# Altium footprint library MERES.PcbLib: 90 footprints (part 5 of 6)
Each footprint in its own frame and in the unit in brackets; x right, y up, seen from the top. Pads: shape width x height; smd on the part's side, far side on the other; paste and mask are expansions set on the pad; w line width, h text height; cw(c..) or ccw(c..) is an arc to the next point about the centre after c.
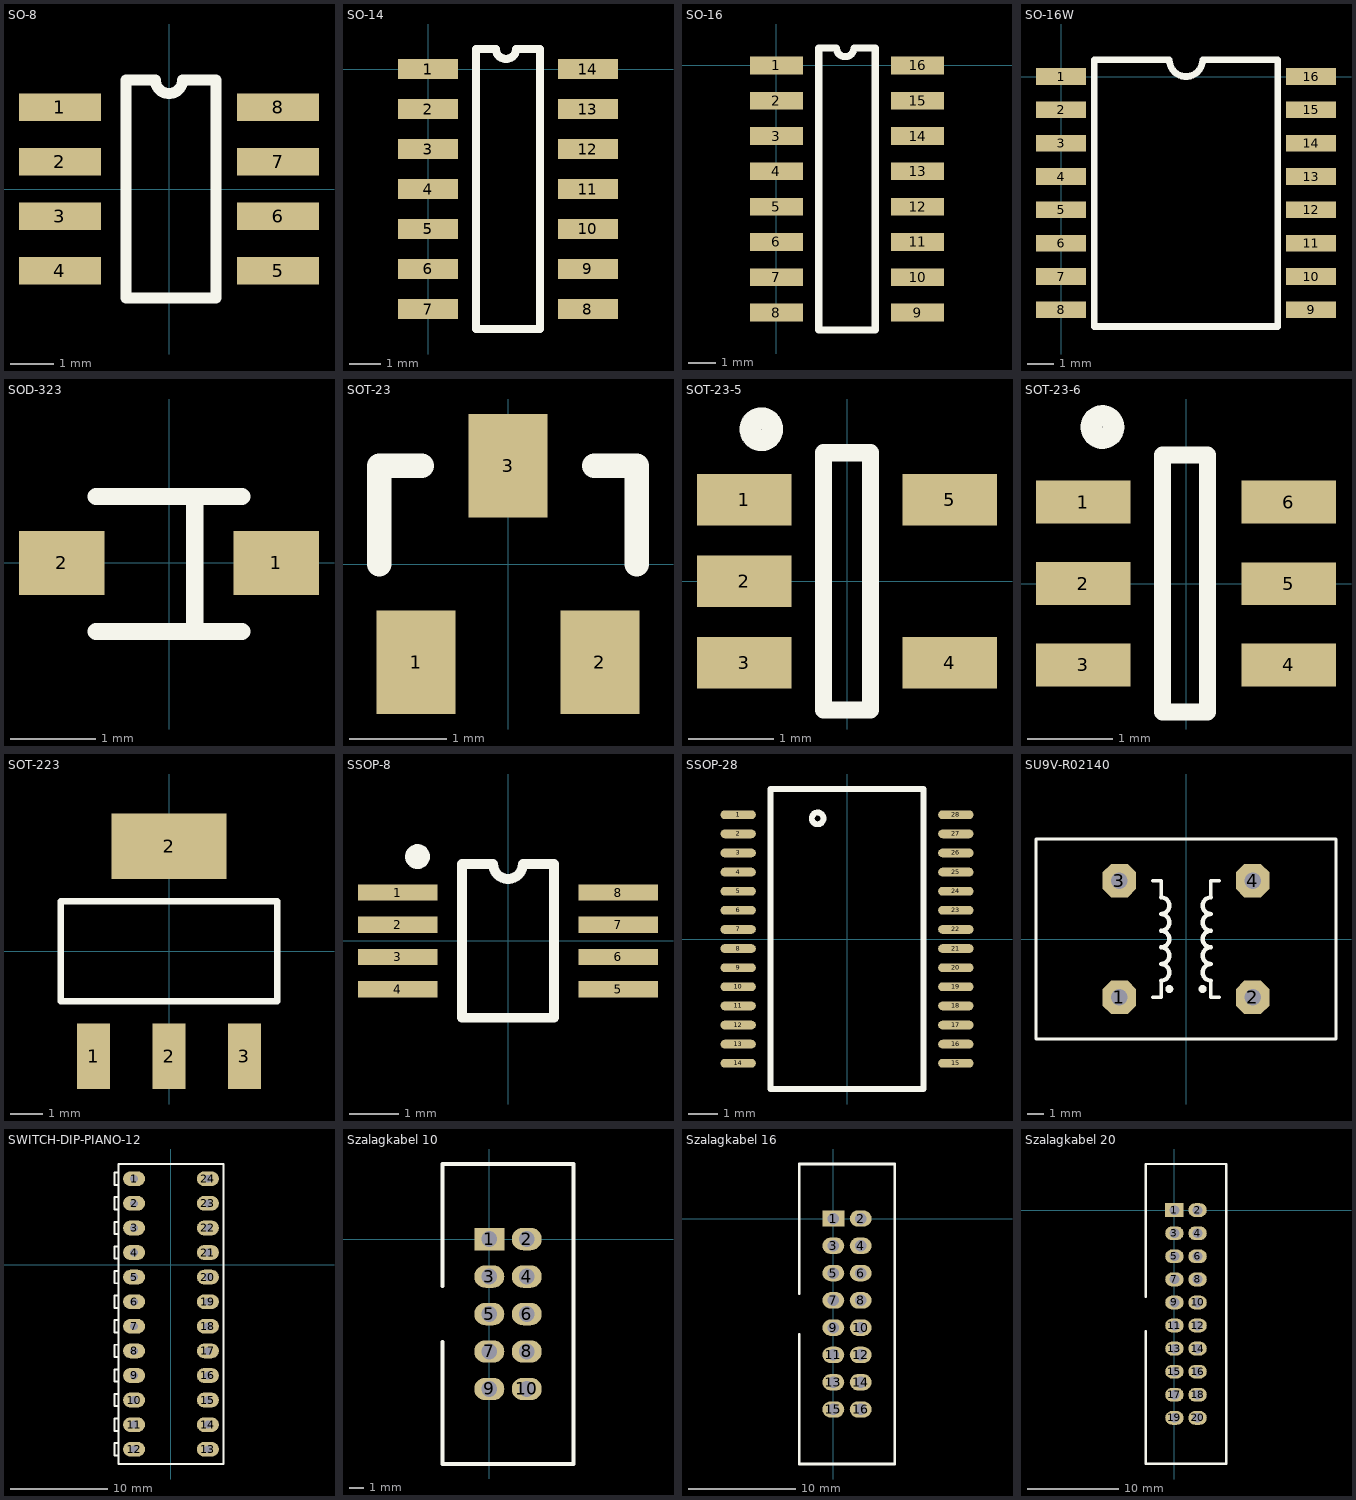
[diagram p4: the footprints below, top view; thin cyan lines are the x and y axes]

## SO-8 [mil]
pads (8):
  rect 75x25 smd: 1(-100,75) 2(-100,25) 3(-100,-25) 4(-100,-75) 5(100,-75) 6(100,-25) 7(100,25) 8(100,75)
Top Overlay:
  lines w10: -39.31,-100 -39.31,100 -12.5,100 ccw(c0,100) 12.5,100 43.25,100 43.25,-100 -39.31,-100
3D body: height 68.9, standoff 0, extent -118.11,-96.46 118.11,96.46

## SO-14 [mil]
pads (14):
  rect 75x25 smd: 1(0,0) 2(0,-50) 3(0,-100) 4(0,-150) 5(0,-200) 6(0,-250) 7(0,-300) 8(200,-300) 9(200,-250) 10(200,-200) 11(200,-150) 12(200,-100) 13(200,-50) 14(200,0)
Top Overlay:
  lines w10: 60,-325 140,-325 140,25 110,25 cw(c97.5,25) 85,25 60,25 60,-325
3D body: height 68.9, standoff 0, extent -18.11,-320.28 218.11,20.28

## SO-16 [mil]
pads (16):
  rect 75x25 smd: 1(0,0) 2(0,-50) 3(0,-100) 4(0,-150) 5(0,-200) 6(0,-250) 7(0,-300) 8(0,-350) 9(200,-350) 10(200,-300) 11(200,-250) 12(200,-200) 13(200,-150) 14(200,-100) 15(200,-50) 16(200,0)
Top Overlay:
  lines w10: 60,-375 60,25 85,25 ccw(c97.5,25) 110,25 140,25 140,-375 60,-375
3D body: height 68.9, standoff 0, extent -18.11,-369.88 218.11,19.88

## SO-16W [mil]
pads (16):
  rect 75x25 smd: 1(0,0) 2(0,-50) 3(0,-100) 4(0,-150) 5(0,-200) 6(0,-250) 7(0,-300) 8(0,-350) 9(375,-350) 10(375,-300) 11(375,-250) 12(375,-200) 13(375,-150) 14(375,-100) 15(375,-50) 16(375,0)
Top Overlay:
  lines w10: 50,-375 50,25 162.5,25 ccw(c187.5,25) 212.5,25 325,25 325,-375 50,-375
3D body: height 137.8, standoff 0, extent -15.26,-375.79 390.26,25.79

## SOD-323 [mm]
pads (2):
  rect 1x0.75 smd: 1(1.25,0) 2(-1.25,0)
Top Overlay:
  lines w0.203: -0.85,-0.8 0.85,-0.8 ; -0.85,0.775 0.85,0.775 ; 0.3,-0.775 0.3,0.775
3D body: height 0.79, standoff -0.08, extent -1.35,-0.675 1.35,0.675

## SOT-23 [mil]
pads (3):
  rect 32x42 smd: 1(-37.4,-40) 2(37.4,-40) 3(0,40)
Top Overlay:
  lines w10: -52.4,0 -52.4,40 -35,40 ; 35,40 52.4,40 52.4,0
3D body: height 38.78, standoff -0.07, extent -57.5,-45.59 57.5,45.59

## SOT-23-5 [mm] "SOT23, 5-Leads, Texas Instruments"
height 1.45
pads (5):
  rect 1.1x0.6 smd: 1(-1.2,0.95) 2(-1.2,0) 3(-1.2,-0.95) 4(1.2,-0.95) 5(1.2,0.95)
Top Overlay:
  circle w0.25: c-1,1.775 r0.13
  lines w0.2: -0.275,-1.5 0.275,-1.5 0.275,1.5 -0.275,1.5 -0.275,-1.5
3D body: height 0.98, standoff 0, extent -1.173,-1.46 1.143,1.46

## SOT-23-6 [mm] "SOT23, 6-Leads, Texas Instruments"
height 1.45
pads (6):
  rect 1.1x0.5 smd: 1(-1.2,0.95) 2(-1.2,0) 3(-1.2,-0.95) 4(1.2,-0.95) 5(1.2,-0.002) 6(1.2,0.95)
Top Overlay:
  circle w0.25: c-0.975,1.826 r0.13
  lines w0.2: -0.275,-1.5 0.25,-1.5 0.25,1.5 -0.275,1.5 -0.275,-1.5
3D body: height 0.98, standoff 0, extent -1.158,-1.463 1.158,1.458

## SOT-223 [mm]
pads (4):
  rect 1x2 smd: 1(-2.3,-3.2) 2(0,-3.2) 3(2.3,-3.2)
  rect 3.5x2 smd: 2(0,3.2)
Top Overlay:
  lines w0.203: -3.3,-1.524 -3.3,1.524 3.3,1.524 3.3,-1.524 -3.3,-1.524
3D body: height 1.8, standoff -0.14, extent -3.25,-3.492 3.25,3.508

## SSOP-8 [mm] "SSOP, 8-Leads, Pitch 0,65mm, Body 3,1x3,1mm"
height 1.1
pads (8):
  rect 1.6x0.325 smd: 1(-2.225,0.975) 2(-2.225,0.325) 3(-2.225,-0.325) 4(-2.225,-0.975) 5(2.225,-0.975) 6(2.225,-0.325) 7(2.225,0.325) 8(2.225,0.975)
Top Overlay:
  circle w0.25: c-1.825,1.7 r0.125
  lines w0.2: -0.925,-1.55 -0.925,1.55 -0.3,1.55 ccw(c0,1.55) 0.3,1.55 0.925,1.55 0.925,-1.55 -0.925,-1.55

## SSOP-28 [mm] "FTDI Chip"
height 2
pads (28):
  oval 1.2x0.3 smd: 1(-3.7,4.225) 2(-3.7,3.575) 3(-3.7,2.925) 4(-3.7,2.275) 5(-3.7,1.625) 6(-3.7,0.975) 7(-3.7,0.325) 8(-3.7,-0.325) 9(-3.7,-0.975) 10(-3.7,-1.625) 11(-3.7,-2.275) 12(-3.7,-2.925) 13(-3.7,-3.575) 14(-3.7,-4.225) 15(3.7,-4.225) 16(3.7,-3.575) 17(3.7,-2.925) 18(3.7,-2.275) 19(3.7,-1.625) 20(3.7,-0.975) 21(3.7,-0.325) 22(3.7,0.325) 23(3.7,0.975) 24(3.7,1.625) 25(3.7,2.275) 26(3.7,2.925) 27(3.7,3.575) 28(3.7,4.225)
Top Overlay:
  circle w0.2: c-1,4.1 r0.2
  lines w0.2: -2.6,-5.1 2.6,-5.1 2.6,5.1 -2.6,5.1 -2.6,-5.1
3D body: height 1.95, standoff -0.05, extent -3.881,-5.105 3.931,5.095

## SU9V-R02140 [mm]
pads (4):
  oct 2x2 hole 1: 1(-4,-3.5) 2(4,-3.5) 3(-4,3.5) 4(4,3.5)
Top Overlay:
  circle w0.254: c1,-3 r0.112
  circle w0.254: c-1,-3 r0.112
  lines w0.2: -2,-3.5 -1.5,-3.5 -1.492,-3.492 -1.492,-2.5 ; -2,3.5 -1.5,3.5 ; -1.492,2.5 -1.492,3.492 ; 1.492,-2.5 1.492,-3.492 1.5,-3.5 2,-3.5 ; 1.492,2.5 1.492,3.5 ; 1.5,3.5 2,3.5 ; -9,-6 -9,6 9,6 9,-6 -9,-6
  lines w0.253: -1.492,-1.5 cw(c-1.5,-2) -1.492,-2.5 ; -1.492,-0.5 cw(c-1.5,-1) -1.492,-1.5 ; -1.492,0.5 cw(c-1.5,0) -1.492,-0.5 ; -1.492,1.5 cw(c-1.5,1) -1.492,0.5 ; -1.492,2.5 cw(c-1.5,2) -1.492,1.5 ; 1.492,-2.5 cw(c1.5,-2) 1.492,-1.5 ; 1.492,-1.5 cw(c1.5,-1) 1.492,-0.5 ; 1.492,-0.5 cw(c1.5,0) 1.492,0.5 ; 1.492,0.5 cw(c1.5,1) 1.492,1.5 ; 1.492,1.5 cw(c1.5,2) 1.492,2.5
3D body: height 17, standoff 0, extent -9.1,-6.1 9.1,6.1
3D body: height 0, standoff -4, extent -4.336,-3.836 -3.664,-3.164
3D body: height 0, standoff -4, extent 3.664,-3.836 4.336,-3.164
3D body: height 0, standoff -4, extent 3.664,3.164 4.336,3.836
3D body: height 0, standoff -4, extent -4.336,3.164 -3.664,3.836

## SWITCH-DIP-PIANO-12 [mil]
pads (24):
  oval 90x60 hole 32: 1(-150,350) 2(-150,250) 3(-150,150) 4(-150,50) 5(-150,-50) 6(-150,-150) 7(-150,-250) 8(-150,-350) 9(-150,-450) 10(-150,-550) 11(-150,-650) 12(-150,-750) 13(150,-750) 14(150,-650) 15(150,-550) 16(150,-450) 17(150,-350) 18(150,-250) 19(150,-150) 20(150,-50) 21(150,50) 22(150,150) 23(150,250) 24(150,350)
Top Overlay:
  lines w8: -214,-775 -230,-775 -230,-725 -214,-725 ; -214,-675 -230,-675 -230,-625 -214,-625 ; -214,-575 -230,-575 -230,-525 -214,-525 ; -214,-475 -230,-475 -230,-425 -214,-425 ; -214,-375 -230,-375 -230,-325 -214,-325 ; -214,-275 -230,-275 -230,-225 -214,-225 ; -214,-175 -230,-175 -230,-125 -214,-125 ; -214,-75 -230,-75 -230,-25 -214,-25 ; -214,25 -230,25 -230,75 -214,75 ; -214,125 -230,125 -230,175 -214,175 ; -214,225 -230,225 -230,275 -214,275 ; -214,325 -230,325 -230,375 -214,375 ; -214,410 -214,200 -214,0 -214,-200 -214,-810 214,-810 214,-200 214,0 214,200 214,410 -213,410

## Szalagkabel 10 [mil]
pads (10):
  rect 80x60 hole 42: 1(0,0)
  oval 80x60 hole 42: 2(100,0) 3(0,-100) 4(100,-100) 5(0,-200) 6(100,-200) 7(0,-300) 8(100,-300) 9(0,-400) 10(100,-400)
Top Overlay:
  lines w10: -125,-275 -125,-600 225,-600 225,200 -125,200 -125,-125
3D body: height 358.27, standoff -125.98, extent -125,-600.79 235.24,200.79

## Szalagkabel 16 [mil]
pads (16):
  rect 80x60 hole 42: 1(0,0)
  oval 80x60 hole 42: 2(100,0) 3(0,-100) 4(100,-100) 5(0,-200) 6(100,-200) 7(0,-300) 8(100,-300) 9(0,-400) 10(100,-400) 11(0,-500) 12(100,-500) 13(0,-600) 14(100,-600) 15(0,-700) 16(100,-700)
Top Overlay:
  lines w10: -125,-425 -125,-900 225,-900 225,200 -125,200 -125,-275
3D body: height 358.27, standoff -125.98, extent -125,-900 235.24,201.57

## Szalagkabel 20 [mil]
pads (20):
  rect 80x60 hole 42: 1(0,0)
  oval 80x60 hole 42: 2(100,0) 3(0,-100) 4(100,-100) 5(0,-200) 6(100,-200) 7(0,-300) 8(100,-300) 9(0,-400) 10(100,-400) 11(0,-500) 12(100,-500) 13(0,-600) 14(100,-600) 15(0,-700) 16(100,-700) 17(0,-800) 18(100,-800) 19(0,-900) 20(100,-900)
Top Overlay:
  lines w10: -125,-1100 -125,-525 ; -125,-1099.21 225,-1099.21 ; -125,-375 -125,200 ; 225,-1100 225,200 ; -125,200 225,200 ; -125,200 225,200
3D body: height 358.27, standoff -125.98, extent -125,-1100 235.24,201.57